# EAGLE library part 631008112021 (library Wuerth_Elektronik_eiCan_Communication_Connectors_v2.2)
WR-COM Horizontal Shielded Mini DIN, 8 pins
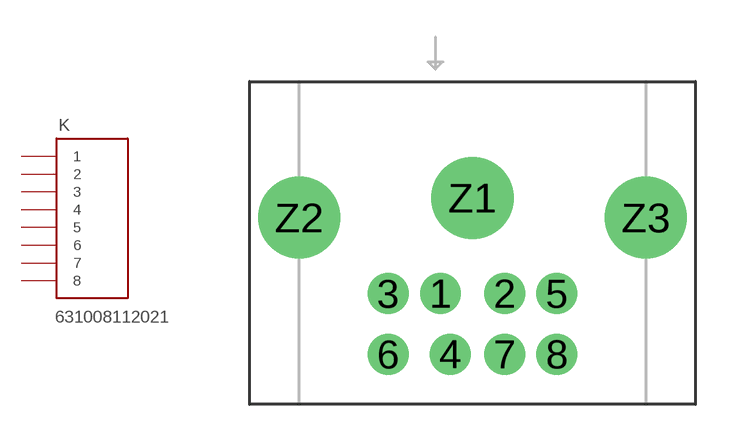
[diagram p10: symbol with the pads of 631008112021; footprint 631008112021]

Designator prefix K

## 631008112021  [631008112021]
1  2  pas
2  1  pas
3  5  pas
4  7  pas
5  3  pas
6  8  pas
7  4  pas
8  6  pas

## Footprint 631008112021 (pad centres in mm)
WR-COM Horizontal Shielded Mini DIN, 8 pins
drill 1.1: 1 -1.29,-8.57; 2 1.3,-8.57; 3 -3.405,-8.57; 4 -0.9,-11.02; 5 3.405,-8.57; 6 -3.405,-11.02; 7 1.3,-11.02; 8 3.405,-11.02
drill 2.3: Z1 0,-4.7; Z2 -7,-5.5; Z3 7,-5.5